# Altium footprint library smdchip.PcbLib: 57 footprints (part 2 of 4)
Each footprint in its own frame and in the unit in brackets; x right, y up, seen from the top. Pads: shape width x height; smd on the part's side, far side on the other; paste and mask are expansions set on the pad; w line width, h text height; cw(c..) or ccw(c..) is an arc to the next point about the centre after c.
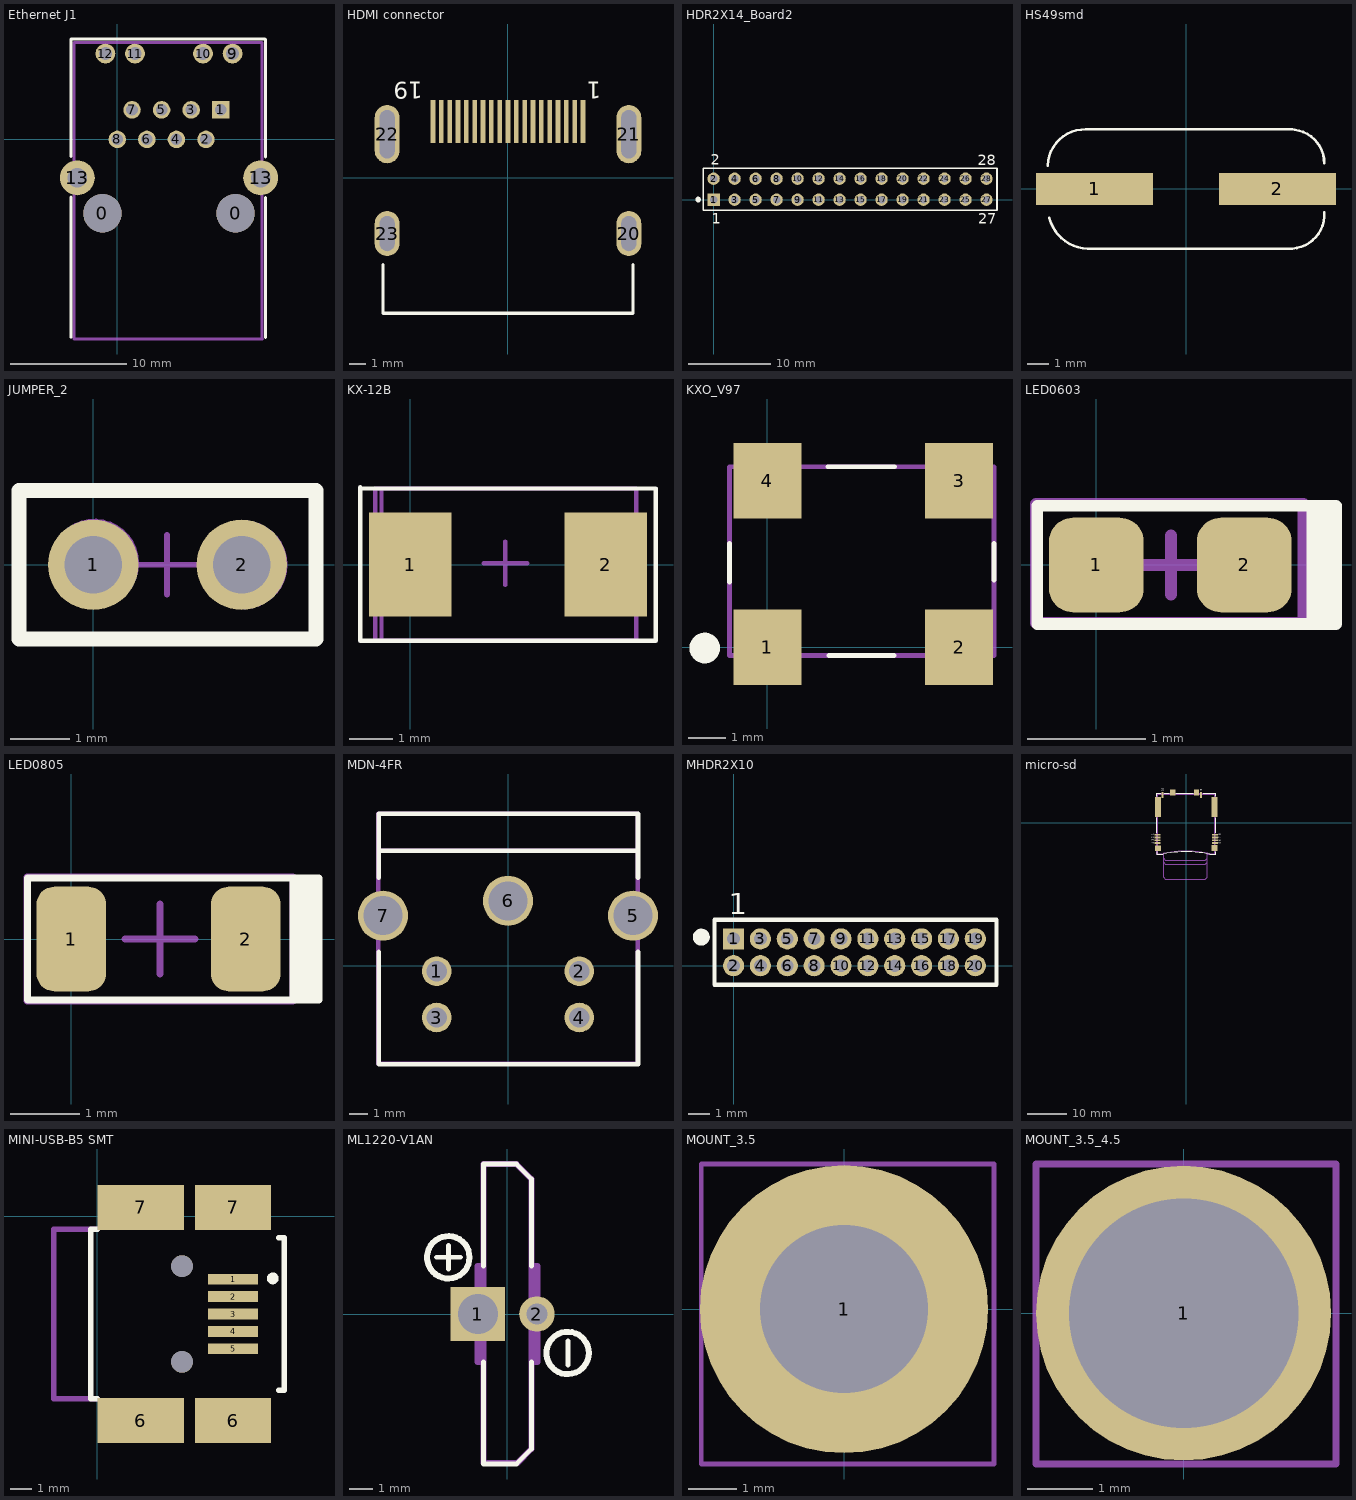
[diagram p1: the footprints below, top view; thin cyan lines are the x and y axes]

## Ethernet J1 [mm] "J1011F01PNL PulseJack"
height 13.97
pads (16):
  round 3.3 hole 3.3 unplated: 0(-1.27,-6.35) 0(10.16,-6.35)
  rect 1.5x1.5 hole 1: 1(8.89,2.54)
  round 1.5 hole 1: 2(7.62,0) 3(6.35,2.54) 4(5.08,0) 5(3.81,2.54) 6(2.54,0) 7(1.27,2.54) 8(0,0)
  round 1.7 hole 1.1: 9(9.91,7.37) 10(7.37,7.37) 11(1.52,7.37) 12(-1.02,7.37)
  round 3 hole 1.7: 13(-3.43,-3.3) 13(12.32,-3.3)
Top Overlay:
  lines w0.254: -3.975,-17 -3.975,-4.95 ; -3.975,-1.475 -3.975,8.625 12.7,8.625 12.75,8.575 12.75,-1.5 ; 12.75,-17.025 12.75,-4.975
Mechanical 15:
  lines w0.254: -3.725,-17.125 -3.725,8.325 12.45,8.325 12.45,-17.075 ; -3.7,-17.15 12.495,-17.15
3D body: height 13.97, standoff 0, extent -3.7,-17.1 12.5,8.3

## HDMI connector [mm] "HDMI connector without panel mount, PULSE manufacturer"
height 6.14
pads (23):
  rect 0.28x2.6 smd mask+0.05: 1(4.5,3.36) 2(4,3.36) 3(3.5,3.36) 4(3,3.36) 5(2.5,3.36) 6(2,3.36) 7(1.5,3.36) 8(1,3.36) 9(0.5,3.36) 10(0,3.36) 11(-0.5,3.36) 12(-1,3.36) 13(-1.5,3.36) 14(-2,3.36) 15(-2.5,3.36) 16(-3,3.36) 17(-3.5,3.36) 18(-4,3.36) 19(-4.5,3.36)
  oval 1.5x2.7 hole 0.9 slot 2.1 at 90 deg: 20(7.25,-3.36) 23(-7.25,-3.36)
  oval 1.5x3.5 hole 0.9 slot 2.9 at 90 deg: 21(7.25,2.6) 22(-7.25,2.6)
Top Overlay:
  lines w0.2: -7.5,-5.24 -7.5,-8.14 7.5,-8.14 7.5,-5.24
  text "1" at 5.6,5.76 h1
  text "19" at -5.1,5.76 h1
3D body: height 6.14, standoff 1, extent -7.5,-8.09 7.5,4.61

## HDR2X14_Board2 [mm] "Connector; Header; 14x2 Position"
height 8.5
pads (28):
  rect 1.5x1.5 hole 0.9: 1(0,0)
  round 1.5 hole 0.9: 2(0,2.54) 3(2.54,0) 4(2.54,2.54) 5(5.08,0) 6(5.08,2.54) 7(7.62,0) 8(7.62,2.54) 9(10.16,0) 10(10.16,2.54) 11(12.7,0) 12(12.7,2.54) 13(15.24,0) 14(15.24,2.54) 15(17.78,0) 16(17.78,2.54) 17(20.32,0) 18(20.32,2.54) 19(22.86,0) 20(22.86,2.54) 21(25.4,0) 22(25.4,2.54) 23(27.94,0) 24(27.94,2.54) 25(30.48,0) 26(30.48,2.54) 27(33.02,0) 28(33.02,2.54)
Top Overlay:
  circle w0.4: c-1.866,0.025 r0.141
  lines w0.2: -1.27,-1.27 -1.27,3.81 34.29,3.81 34.29,-1.27 -1.27,-1.27
  text "1" at -0.2,-2.9 h1.27
  text "2" at -0.325,4.225 h1.27
  text "28" at 31.95,4.175 h1.27
  text "27" at 32.025,-2.9 h1.27
Bottom Overlay:
  circle w0.4: c-1.841,0.05 r0.141
  lines w0.2: -1.27,-1.245 -1.27,3.835 34.29,3.835 34.29,-1.245 -1.27,-1.245
  text "1" at 0.2,-2.9 h1.27
  text "2" at 0.525,4.225 h1.27
  text "28" at 34.075,4.225 h1.27
  text "27" at 34.05,-2.9 h1.27
3D body: height 8.5, standoff 0.1, extent -1.3,-1.25 34.275,3.85

## HS49smd [mm]
pads (2):
  rect 5.5x1.5 smd: 1(-4.3,0) 2(4.3,0)
Top Overlay:
  lines w0.12: -6.5,1.1 cw(c-4.75,1.05) -4.7,2.8 5,2.8 ; -6.419,-1.356 ccw(c-4.58,-0.906) -4.622,-2.8 ; -4.58,-2.8 5,-2.8 ccw(c4.9,-1.2) 6.5,-1.1 ; 4.9,2.8 cw(c4.9,1.2) 6.5,1.2

## JUMPER_2 [mil]
height 334.65
pads (2):
  round 60 hole 38: 1(0,0) 2(98.43,0)
Top Overlay:
  lines w9.84: -49.21,-49.21 147.64,-49.21 147.64,49.21 -49.21,49.21 -49.21,-49.21
Mechanical 13:
  circle w3.94: c99.21,0 r27.56
  circle w3.94: c0.79,0.98 r27.56
Mechanical 15:
  lines w3.94: 29.21,0 68.58,0 ; 48.9,-19.68 48.9,19.68 ; -49.21,-49.21 149.61,-49.21 149.61,50.2 -49.21,50.2 -49.21,-49.21
3D body: height 334.65, standoff -137.8, extent 71.65,-27.56 126.77,27.56
3D body: height 334.65, standoff -137.8, extent -26.77,-26.57 28.35,28.54
3D body: height 118.11, standoff 0, extent -50.2,-48.23 146.65,49.21

## KX-12B [mm]
height 1.2
pads (2):
  rect 1.9x2.4 smd: 1(0,0) 2(4.5,0)
Top Overlay:
  lines w0.1: -1.15,1.75 5.65,1.75 5.65,-1.725 ; -1.15,1.775 -1.15,-1.75 5.65,-1.75
Mechanical 13:
  lines w0.1: -0.675,1.75 5.18,1.75 ; -0.66,1.75 -0.66,-1.75 5.2,-1.75 5.2,1.75
Mechanical 15:
  lines w0.1: 1.69,0.03 2.69,0.03 ; 2.19,-0.47 2.19,0.53 ; -0.8,-1.75 -0.8,1.75 5.2,1.75 5.2,-1.75 -0.8,-1.75
3D body: height 1.2, standoff 0.1, extent -0.66,-1.75 5.2,1.75

## KXO_V97 [mm]
height 1.3
pads (4):
  rect 1.8x2 smd: 1(0,0) 2(5.08,0) 3(5.08,4.4) 4(0,4.4)
Top Overlay:
  circle w0.4: c-1.656,-0.025 r0.206
  lines w0.127: -1,1.725 -1,2.75 ; 1.6,4.775 3.375,4.775 ; 1.625,-0.225 3.35,-0.225 ; 6,1.775 6,2.75
Mechanical 13:
  lines w0.127: -1,-0.225 -1,4.775 6,4.775 6,-0.225 -1,-0.225
3D body: height 1.3, standoff 0, extent -1,-0.225 6,4.775

## LED0603 [mm]
height 0.7
pads (2):
  rrect50% 0.8x0.8 smd: 1(0,0) 2(1.25,0)
Top Overlay:
  lines w0.1: 1.825,-0.5 1.825,0.5 ; 1.925,-0.5 1.925,0.5 ; -0.5,-0.5 -0.5,0.5 2.025,0.5 2.025,-0.5 -0.5,-0.5
Mechanical 13:
  lines w0.1: -0.51,-0.49 -0.51,0.51 1.75,0.51 1.75,-0.49 -0.51,-0.49
Mechanical 15:
  lines w0.1: 0.38,0 0.88,0 ; 0.63,-0.25 0.63,0.25 ; -0.51,-0.49 -0.51,0.516 1.75,0.516 1.75,-0.49 -0.51,-0.49
3D body: height 0.7, standoff 0.1, extent -0.525,-0.5 1.75,0.51

## LED0805 [mm]
height 1
pads (2):
  rrect50% 1x1.5 smd: 1(0,0) 2(2.5,0)
Top Overlay:
  lines w0.1: 3.175,-0.875 3.175,0.875 ; 3.275,-0.875 3.275,0.875 ; 3.375,-0.875 3.375,0.875 ; 3.45,-0.875 3.45,0.875 ; -0.625,-0.875 3.55,-0.875 3.55,0.875 -0.625,0.875 -0.625,-0.875
Mechanical 13:
  lines w0.1: -0.635,-0.889 -0.635,0.889 3.175,0.889 3.175,-0.889 -0.635,-0.889
Mechanical 15:
  lines w0.1: 0.77,0 1.77,0 ; 1.27,-0.5 1.27,0.5 ; -0.635,-0.889 -0.635,0.889 3.175,0.889 3.175,-0.889 -0.635,-0.889
3D body: height 1, standoff 0.1, extent -0.635,-0.889 3.175,0.889

## MDN-4FR [mm]
height 13
pads (7):
  round 1.6 hole 1.1: 1(-3.85,-0.3) 2(3.85,-0.3) 3(-3.85,-2.8) 4(3.85,-2.8)
  round 2.7 hole 2.1: 5(6.75,2.7) 6(0,3.5) 7(-6.75,2.7)
Top Overlay:
  lines w0.254: -6.98,-5.31 -6.98,0.74 ; -6.98,4.74 -6.98,8.2 7.02,8.2 7.02,4.74 ; -6.97,-5.32 7.03,-5.32 ; -6.95,6.2 7.02,6.19 ; 7.02,-5.31 7.02,0.74
Mechanical 13:
  lines w0.254: -7,8.2 -7,-5.3 7,-5.3 7,8.2 -6.9,8.2 ; -6.9,6.2 7,6.2
Mechanical 15:
  lines w0.254: -7,8.2 -7,-5.3 7,-5.3 7,8.2 -6.9,8.2 ; -6.9,6.2 7,6.2 -6.9,6.2
3D body: height 12.8, standoff 0.1, extent -7.025,-5.325 7,6.2
3D body: height 13, standoff 0.1, extent -7.037,6.175 6.937,8.1

## MHDR2X10 [mm] "Connector; Header; 10x2 Position"
height 8.5
pads (20):
  rect 1x1 hole 0.6: 1(0,1.27)
  round 1 hole 0.6: 2(0,0) 3(1.27,1.27) 4(1.27,0) 5(2.54,1.27) 6(2.54,0) 7(3.81,1.27) 8(3.81,0) 9(5.08,1.27) 10(5.08,0) 11(6.35,1.27) 12(6.35,0) 13(7.62,1.27) 14(7.62,0) 15(8.89,1.27) 16(8.89,0) 17(10.16,1.27) 18(10.16,0) 19(11.43,1.27) 20(11.43,0)
Top Overlay:
  circle w0.4: c-1.527,1.35 r0.202
  lines w0.2: -0.9,-0.9 12.43,-0.9 12.43,2.17 -0.9,2.17 -0.9,-0.9
  text "1" at -0.225,2.425 h1
Bottom Overlay:
  circle w0.4: c-1.527,1.35 r0.202
  lines w0.2: -0.875,-0.875 12.455,-0.875 12.455,2.195 -0.875,2.195 -0.875,-0.875
  text "1" at 0.125,2.425 h1
  text "19" at 14.35,-0.475 h1
3D body: height 8.5, standoff 0.1, extent -0.9,-0.85 12.425,2.225

## micro-sd [mm] "SCHA5B0200"
height 2.75
pads (16):
  rect 1.5x0.45 smd mask+0.05: 1(-7.257,-3.035) 2(-7.257,-3.735) 3(-7.257,-4.435) 4(-7.257,-5.135) 5(7.257,-5.135) 6(7.257,-4.435) 7(7.257,-3.735) 8(7.257,-3.035)
  rect 0.5x1.5 smd mask+0.05: 9(3.775,7) 10(-5.975,7)
  rect 1.2x1.5 smd mask+0.05: 11(2.575,7.7)
  rect 1.5x1.5 smd mask+0.05: 12(-3.425,7.7) 15(7.187,-6.4)
  rect 1.5x5 smd mask+0.05: 13(7.187,4) 14(-7.187,4)
  rect 1.5x1.4 smd mask+0.05: 16(-7.187,-6.4)
Top Overlay:
  lines w0.254: -7.425,-7.3 -7.425,-7.925 -5.925,-7.925 ; -7.425,-2.575 -7.425,1.275 ; -7.425,6.725 -7.425,7.45 -6.475,7.45 ; -5.77,-7.904 cw(c-0.037,-37.351) 5.901,-7.945 ; -5.525,7.45 -4.25,7.45 ; -2.625,7.45 1.75,7.45 ; 4.275,7.45 7.45,7.45 7.45,6.725 ; 5.975,-7.975 7.45,-7.975 7.45,-7.325 ; 7.425,-2.575 7.425,1.225
  text "8" at 8.7,-3.125 h0.5
  text "7" at 8.7,-3.9 h0.5
  text "6" at 8.725,-4.625 h0.5
  text "5" at 8.7,-5.325 h0.5
  text "4" at -8.225,-5.3 h0.5
  text "3" at -8.225,-4.6 h0.5
  text "2" at -8.25,-3.875 h0.5
  text "1" at -8.25,-3.15 h0.5
  text "9" at 4.025,8.05 h0.5
  text "10" at -5.725,7.975 h0.5
Mechanical 13:
  lines w0.1: 5.45,-7.938 7.3,-7.938 7.3,7.425 -7.475,7.425 -7.475,-7.975 -5.7,-7.975 -5.7,-7.713 cw(c-0.141,-37.193) 5.449,-7.718 ; 5.45,-7.925 5.45,-7.713
Mechanical 15:
  lines w0.1: -5.75,-9.992 -5.275,-10.467 4.85,-10.467 5.35,-9.967 ; -5.75,-9.018 -5.275,-9.492 ; -5.75,-7.8 -5.75,-13.812 -5.275,-14.287 4.85,-14.287 5.35,-13.787 5.35,-7.7 ; -5.734,-7.775 cw(c-0.002,-37.222) 5.71,-7.77 ; -5.715,-7.8 -7.25,-7.8 -7.25,7.2 7.25,7.2 7.25,-7.8 5.715,-7.8 ; -5.275,-9.5 4.85,-9.5 ; 4.85,-9.492 5.35,-8.992
  text "microSD" at -3.45,-13.413 h2
3D body: height 1.87, standoff 0.87, extent -5.75,-14.275 5.325,0.775
3D body: height 2.75, standoff 0, extent -7.45,-7.975 7.35,7.45

## MINI-USB-B5 SMT [mm]
pads (11):
  rect 2.3x0.5 smd: 1(6.25,-2.9) 2(6.25,-3.7) 3(6.25,-4.5) 4(6.25,-5.3) 5(6.25,-6.1)
  rect 4x2.05 smd: 6(2,-9.4) 7(2,0.4)
  rect 3.5x2.05 smd: 6(6.25,-9.4) 7(6.25,0.4)
  round 1 hole 1 unplated: SYSPAD10(3.9,-6.7) SYSPAD11(3.9,-2.3)
Top Overlay:
  lines w0.25: 0,-8.4 -0.3,-8.4 -0.3,-0.6 0,-0.6 ; 8.35,-8 8.6,-8 8.6,-1 8.35,-1
  lines w0.254: 8.174,-2.763 ccw(c8.074,-2.863) 8.2,-2.8
Mechanical 15:
  lines w0.25: 0,-8.4 -2,-8.4 -2,-0.6 0,-0.6

## ML1220-V1AN [mm]
height 14.1
pads (2):
  rect 2.3x2.3 hole 1.7: 1(-1.25,0)
  round 1.5 hole 0.9: 2(1.25,0)
Top Overlay:
  circle w0.254: c-2.502,2.4 r0.898
  circle w0.254: c2.551,-1.65 r0.898
  lines w0.2: -3.001,2.4 -1.985,2.4 ; -2.493,1.892 -2.493,2.908 ; -1.016,-2.032 -1.016,-6.35 0.381,-6.35 1.016,-5.715 1.016,-2.032 ; -1.016,2.032 -1.016,6.35 0.381,6.35 1.016,5.715 1.016,2.032 ; 2.56,-2.158 2.56,-1.142
Mechanical 15:
  lines w0.254: -1.27,-2.032 -1.27,2.032 -1.143,2.032 -1.143,-2.032 -1.27,-2.032 ; -1.016,-6.3 0.431,-6.3 1.016,-5.715 1.016,5.715 0.381,6.35 -1.016,6.35 -1.016,-6.3 ; 1.143,-2.032 1.27,-2.032 1.27,2.032 1.143,2.032 1.143,-2.032
3D body: height 14.1, standoff 0, extent -1.016,-6.35 1.016,6.35

## MOUNT_3.5 [mm]
pads (1):
  round 6 hole 3.5: 1(0,0)
Mechanical 15:
  lines w0.1: -0.483,0 0.517,0 ; 0.017,-0.5 0.017,0.5 ; -2.975,-3.225 -2.975,3.025 3.125,3.025 3.125,-3.225 -2.975,-3.225

## MOUNT_3.5_4.5 [mm]
pads (1):
  round 4.5 hole 3.5: 1(0,0)
Mechanical 15:
  lines w0.1: -0.508,0 0.492,0 ; -0.008,-0.5 -0.008,0.5 ; -2.25,-2.3 -2.25,2.275 2.325,2.275 2.325,-2.3 -2.25,-2.3